# Altium footprint library con-hirose.PCBLIB: 71 footprints (part 3 of 6)
Each footprint in its own frame and in the unit in brackets; x right, y up, seen from the top. Pads: shape width x height; smd on the part's side, far side on the other; paste and mask are expansions set on the pad; w line width, h text height; cw(c..) or ccw(c..) is an arc to the next point about the centre after c.
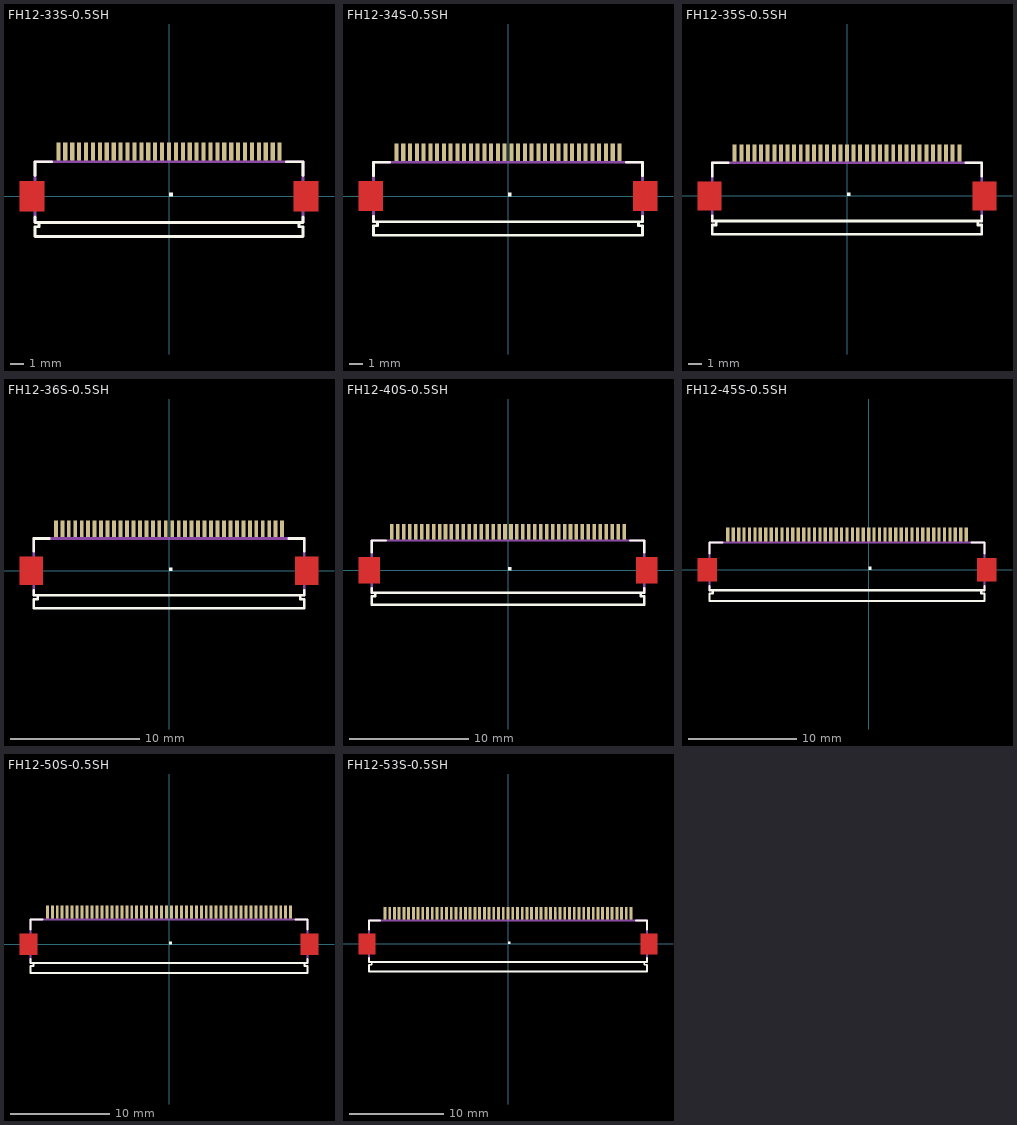
[diagram p2: the footprints below, top view; thin cyan lines are the x and y axes]

## FH12-33S-0.5SH [mm]
pads (33):
  rect 0.3x1.3 smd: 1(-8,3.25) 2(-7.5,3.25) 3(-7,3.25) 4(-6.5,3.25) 5(-6,3.25) 6(-5.5,3.25) 7(-5,3.25) 8(-4.5,3.25) 9(-4,3.25) 10(-3.5,3.25) 11(-3,3.25) 12(-2.5,3.25) 13(-2,3.25) 14(-1.5,3.25) 15(-1,3.25) 16(-0.5,3.25) 17(0,3.25) 18(0.5,3.25) 19(1,3.25) 20(1.5,3.25) 21(2,3.25) 22(2.5,3.25) 23(3,3.25) 24(3.5,3.25) 25(4,3.25) 26(4.5,3.25) 27(5,3.25) 28(5.5,3.25) 29(6,3.25) 30(6.5,3.25) 31(7,3.25) 32(7.5,3.25) 33(8,3.25)
Top Layer:
  region: 10.8,1.1 9,1.1 9,-1.1 10.8,-1.1
  region: -9,1.1 -10.8,1.1 -10.8,-1.1 -9,-1.1
Top Overlay:
  region: 0,0 0.254,0 0.254,0.254 0,0.254
  lines w0.203: -9.7,-1.5 -9.7,-1.9 -9.4,-1.9 ; -9.7,1.5 -9.7,2.5 -8.5,2.5 ; 8.5,2.5 9.7,2.5 9.7,1.5 ; 9.7,-1.5 9.7,-1.9 9.4,-1.9 ; -9.4,-1.9 -9.4,-2.2 -9.7,-2.2 -9.7,-2.9 9.7,-2.9 9.7,-2.2 9.4,-2.2 9.4,-1.9 ; -9.4,-1.9 9.4,-1.9
Top Paste:
  rectangle: -8.125,2.625 -7.875,3.875
  rectangle: -7.625,2.625 -7.375,3.875
  rectangle: -7.125,2.625 -6.875,3.875
  rectangle: -6.625,2.625 -6.375,3.875
  rectangle: -6.125,2.625 -5.875,3.875
  rectangle: -5.625,2.625 -5.375,3.875
  rectangle: -5.125,2.625 -4.875,3.875
  rectangle: -4.625,2.625 -4.375,3.875
  rectangle: -4.125,2.625 -3.875,3.875
  rectangle: -3.625,2.625 -3.375,3.875
  rectangle: -3.125,2.625 -2.875,3.875
  rectangle: -2.625,2.625 -2.375,3.875
  rectangle: -2.125,2.625 -1.875,3.875
  rectangle: -1.625,2.625 -1.375,3.875
  rectangle: -1.125,2.625 -0.875,3.875
  rectangle: -0.625,2.625 -0.375,3.875
  rectangle: -0.125,2.625 0.125,3.875
  rectangle: 0.375,2.625 0.625,3.875
  rectangle: 0.875,2.625 1.125,3.875
  rectangle: 1.375,2.625 1.625,3.875
  rectangle: 1.875,2.625 2.125,3.875
  rectangle: 2.375,2.625 2.625,3.875
  rectangle: 2.875,2.625 3.125,3.875
  rectangle: 3.375,2.625 3.625,3.875
  rectangle: 3.875,2.625 4.125,3.875
  rectangle: 4.375,2.625 4.625,3.875
  rectangle: 4.875,2.625 5.125,3.875
  rectangle: 5.375,2.625 5.625,3.875
  rectangle: 5.875,2.625 6.125,3.875
  rectangle: 6.375,2.625 6.625,3.875
  rectangle: 6.875,2.625 7.125,3.875
  rectangle: 7.375,2.625 7.625,3.875
  rectangle: 7.875,2.625 8.125,3.875
  region: 10.725,1.025 9.075,1.025 9.075,-1.025 10.725,-1.025
  region: -9.075,1.025 -10.725,1.025 -10.725,-1.025 -9.075,-1.025
Top Solder:
  rectangle: -8.2,2.55 -7.8,3.95
  rectangle: -7.7,2.55 -7.3,3.95
  rectangle: -7.2,2.55 -6.8,3.95
  rectangle: -6.7,2.55 -6.3,3.95
  rectangle: -6.2,2.55 -5.8,3.95
  rectangle: -5.7,2.55 -5.3,3.95
  rectangle: -5.2,2.55 -4.8,3.95
  rectangle: -4.7,2.55 -4.3,3.95
  rectangle: -4.2,2.55 -3.8,3.95
  rectangle: -3.7,2.55 -3.3,3.95
  rectangle: -3.2,2.55 -2.8,3.95
  rectangle: -2.7,2.55 -2.3,3.95
  rectangle: -2.2,2.55 -1.8,3.95
  rectangle: -1.7,2.55 -1.3,3.95
  rectangle: -1.2,2.55 -0.8,3.95
  rectangle: -0.7,2.55 -0.3,3.95
  rectangle: -0.2,2.55 0.2,3.95
  rectangle: 0.3,2.55 0.7,3.95
  rectangle: 0.8,2.55 1.2,3.95
  rectangle: 1.3,2.55 1.7,3.95
  rectangle: 1.8,2.55 2.2,3.95
  rectangle: 2.3,2.55 2.7,3.95
  rectangle: 2.8,2.55 3.2,3.95
  rectangle: 3.3,2.55 3.7,3.95
  rectangle: 3.8,2.55 4.2,3.95
  rectangle: 4.3,2.55 4.7,3.95
  rectangle: 4.8,2.55 5.2,3.95
  rectangle: 5.3,2.55 5.7,3.95
  rectangle: 5.8,2.55 6.2,3.95
  rectangle: 6.3,2.55 6.7,3.95
  rectangle: 6.8,2.55 7.2,3.95
  rectangle: 7.3,2.55 7.7,3.95
  rectangle: 7.8,2.55 8.2,3.95
  region: 10.85,1.175 8.95,1.175 8.95,-1.175 10.85,-1.175
  region: -8.95,1.175 -10.85,1.175 -10.85,-1.175 -8.95,-1.175
Mechanical 16:
  rectangle: -8.1,2.55 -7.9,3.4
  rectangle: -7.6,2.55 -7.4,3.4
  rectangle: -7.1,2.55 -6.9,3.4
  rectangle: -6.6,2.55 -6.4,3.4
  rectangle: -6.1,2.55 -5.9,3.4
  rectangle: -5.6,2.55 -5.4,3.4
  rectangle: -5.1,2.55 -4.9,3.4
  rectangle: -4.6,2.55 -4.4,3.4
  rectangle: -4.1,2.55 -3.9,3.4
  rectangle: -3.6,2.55 -3.4,3.4
  rectangle: -3.1,2.55 -2.9,3.4
  rectangle: -2.6,2.55 -2.4,3.4
  rectangle: -2.1,2.55 -1.9,3.4
  rectangle: -1.6,2.55 -1.4,3.4
  rectangle: -1.1,2.55 -0.9,3.4
  rectangle: -0.6,2.55 -0.4,3.4
  rectangle: -0.1,2.55 0.1,3.4
  rectangle: 0.4,2.55 0.6,3.4
  rectangle: 0.9,2.55 1.1,3.4
  rectangle: 1.4,2.55 1.6,3.4
  rectangle: 1.9,2.55 2.1,3.4
  rectangle: 2.4,2.55 2.6,3.4
  rectangle: 2.9,2.55 3.1,3.4
  rectangle: 3.4,2.55 3.6,3.4
  rectangle: 3.9,2.55 4.1,3.4
  rectangle: 4.4,2.55 4.6,3.4
  rectangle: 4.9,2.55 5.1,3.4
  rectangle: 5.4,2.55 5.6,3.4
  rectangle: 5.9,2.55 6.1,3.4
  rectangle: 6.4,2.55 6.6,3.4
  rectangle: 6.9,2.55 7.1,3.4
  rectangle: 7.4,2.55 7.6,3.4
  rectangle: 7.9,2.55 8.1,3.4
  lines w0.203: -9.7,-1.9 -9.7,-0.5 -10.2,-0.5 -10.2,0.5 -9.7,0.5 -9.7,2.5 9.7,2.5 9.7,0.5 10.2,0.5 10.2,-0.5 9.7,-0.5 9.7,-1.9

## FH12-34S-0.5SH [mm]
pads (34):
  rect 0.3x1.3 smd: 1(-8.25,3.25) 2(-7.75,3.25) 3(-7.25,3.25) 4(-6.75,3.25) 5(-6.25,3.25) 6(-5.75,3.25) 7(-5.25,3.25) 8(-4.75,3.25) 9(-4.25,3.25) 10(-3.75,3.25) 11(-3.25,3.25) 12(-2.75,3.25) 13(-2.25,3.25) 14(-1.75,3.25) 15(-1.25,3.25) 16(-0.75,3.25) 17(-0.25,3.25) 18(0.25,3.25) 19(0.75,3.25) 20(1.25,3.25) 21(1.75,3.25) 22(2.25,3.25) 23(2.75,3.25) 24(3.25,3.25) 25(3.75,3.25) 26(4.25,3.25) 27(4.75,3.25) 28(5.25,3.25) 29(5.75,3.25) 30(6.25,3.25) 31(6.75,3.25) 32(7.25,3.25) 33(7.75,3.25) 34(8.25,3.25)
Top Layer:
  region: 11.05,1.1 9.25,1.1 9.25,-1.1 11.05,-1.1
  region: -9.25,1.1 -11.05,1.1 -11.05,-1.1 -9.25,-1.1
Top Overlay:
  region: 0,0 0.254,0 0.254,0.254 0,0.254
  lines w0.203: -9.95,-1.5 -9.95,-1.9 -9.65,-1.9 ; -9.95,1.5 -9.95,2.5 -8.75,2.5 ; 8.75,2.5 9.95,2.5 9.95,1.5 ; 9.95,-1.5 9.95,-1.9 9.65,-1.9 ; -9.65,-1.9 -9.65,-2.2 -9.95,-2.2 -9.95,-2.9 9.95,-2.9 9.95,-2.2 9.65,-2.2 9.65,-1.9 ; -9.65,-1.9 9.65,-1.9
Top Paste:
  rectangle: -8.375,2.625 -8.125,3.875
  rectangle: -7.875,2.625 -7.625,3.875
  rectangle: -7.375,2.625 -7.125,3.875
  rectangle: -6.875,2.625 -6.625,3.875
  rectangle: -6.375,2.625 -6.125,3.875
  rectangle: -5.875,2.625 -5.625,3.875
  rectangle: -5.375,2.625 -5.125,3.875
  rectangle: -4.875,2.625 -4.625,3.875
  rectangle: -4.375,2.625 -4.125,3.875
  rectangle: -3.875,2.625 -3.625,3.875
  rectangle: -3.375,2.625 -3.125,3.875
  rectangle: -2.875,2.625 -2.625,3.875
  rectangle: -2.375,2.625 -2.125,3.875
  rectangle: -1.875,2.625 -1.625,3.875
  rectangle: -1.375,2.625 -1.125,3.875
  rectangle: -0.875,2.625 -0.625,3.875
  rectangle: -0.375,2.625 -0.125,3.875
  rectangle: 0.125,2.625 0.375,3.875
  rectangle: 0.625,2.625 0.875,3.875
  rectangle: 1.125,2.625 1.375,3.875
  rectangle: 1.625,2.625 1.875,3.875
  rectangle: 2.125,2.625 2.375,3.875
  rectangle: 2.625,2.625 2.875,3.875
  rectangle: 3.125,2.625 3.375,3.875
  rectangle: 3.625,2.625 3.875,3.875
  rectangle: 4.125,2.625 4.375,3.875
  rectangle: 4.625,2.625 4.875,3.875
  rectangle: 5.125,2.625 5.375,3.875
  rectangle: 5.625,2.625 5.875,3.875
  rectangle: 6.125,2.625 6.375,3.875
  rectangle: 6.625,2.625 6.875,3.875
  rectangle: 7.125,2.625 7.375,3.875
  rectangle: 7.625,2.625 7.875,3.875
  rectangle: 8.125,2.625 8.375,3.875
  region: 10.975,1.025 9.325,1.025 9.325,-1.025 10.975,-1.025
  region: -9.325,1.025 -10.975,1.025 -10.975,-1.025 -9.325,-1.025
Top Solder:
  rectangle: -8.45,2.55 -8.05,3.95
  rectangle: -7.95,2.55 -7.55,3.95
  rectangle: -7.45,2.55 -7.05,3.95
  rectangle: -6.95,2.55 -6.55,3.95
  rectangle: -6.45,2.55 -6.05,3.95
  rectangle: -5.95,2.55 -5.55,3.95
  rectangle: -5.45,2.55 -5.05,3.95
  rectangle: -4.95,2.55 -4.55,3.95
  rectangle: -4.45,2.55 -4.05,3.95
  rectangle: -3.95,2.55 -3.55,3.95
  rectangle: -3.45,2.55 -3.05,3.95
  rectangle: -2.95,2.55 -2.55,3.95
  rectangle: -2.45,2.55 -2.05,3.95
  rectangle: -1.95,2.55 -1.55,3.95
  rectangle: -1.45,2.55 -1.05,3.95
  rectangle: -0.95,2.55 -0.55,3.95
  rectangle: -0.45,2.55 -0.05,3.95
  rectangle: 0.05,2.55 0.45,3.95
  rectangle: 0.55,2.55 0.95,3.95
  rectangle: 1.05,2.55 1.45,3.95
  rectangle: 1.55,2.55 1.95,3.95
  rectangle: 2.05,2.55 2.45,3.95
  rectangle: 2.55,2.55 2.95,3.95
  rectangle: 3.05,2.55 3.45,3.95
  rectangle: 3.55,2.55 3.95,3.95
  rectangle: 4.05,2.55 4.45,3.95
  rectangle: 4.55,2.55 4.95,3.95
  rectangle: 5.05,2.55 5.45,3.95
  rectangle: 5.55,2.55 5.95,3.95
  rectangle: 6.05,2.55 6.45,3.95
  rectangle: 6.55,2.55 6.95,3.95
  rectangle: 7.05,2.55 7.45,3.95
  rectangle: 7.55,2.55 7.95,3.95
  rectangle: 8.05,2.55 8.45,3.95
  region: 11.1,1.175 9.2,1.175 9.2,-1.175 11.1,-1.175
  region: -9.2,1.175 -11.1,1.175 -11.1,-1.175 -9.2,-1.175
Mechanical 16:
  rectangle: -8.35,2.55 -8.15,3.4
  rectangle: -7.85,2.55 -7.65,3.4
  rectangle: -7.35,2.55 -7.15,3.4
  rectangle: -6.85,2.55 -6.65,3.4
  rectangle: -6.35,2.55 -6.15,3.4
  rectangle: -5.85,2.55 -5.65,3.4
  rectangle: -5.35,2.55 -5.15,3.4
  rectangle: -4.85,2.55 -4.65,3.4
  rectangle: -4.35,2.55 -4.15,3.4
  rectangle: -3.85,2.55 -3.65,3.4
  rectangle: -3.35,2.55 -3.15,3.4
  rectangle: -2.85,2.55 -2.65,3.4
  rectangle: -2.35,2.55 -2.15,3.4
  rectangle: -1.85,2.55 -1.65,3.4
  rectangle: -1.35,2.55 -1.15,3.4
  rectangle: -0.85,2.55 -0.65,3.4
  rectangle: -0.35,2.55 -0.15,3.4
  rectangle: 0.15,2.55 0.35,3.4
  rectangle: 0.65,2.55 0.85,3.4
  rectangle: 1.15,2.55 1.35,3.4
  rectangle: 1.65,2.55 1.85,3.4
  rectangle: 2.15,2.55 2.35,3.4
  rectangle: 2.65,2.55 2.85,3.4
  rectangle: 3.15,2.55 3.35,3.4
  rectangle: 3.65,2.55 3.85,3.4
  rectangle: 4.15,2.55 4.35,3.4
  rectangle: 4.65,2.55 4.85,3.4
  rectangle: 5.15,2.55 5.35,3.4
  rectangle: 5.65,2.55 5.85,3.4
  rectangle: 6.15,2.55 6.35,3.4
  rectangle: 6.65,2.55 6.85,3.4
  rectangle: 7.15,2.55 7.35,3.4
  rectangle: 7.65,2.55 7.85,3.4
  rectangle: 8.15,2.55 8.35,3.4
  lines w0.203: -9.95,-1.9 -9.95,-0.5 -10.45,-0.5 -10.45,0.5 -9.95,0.5 -9.95,2.5 9.95,2.5 9.95,0.5 10.45,0.5 10.45,-0.5 9.95,-0.5 9.95,-1.9

## FH12-35S-0.5SH [mm]
pads (35):
  rect 0.3x1.3 smd: 1(-8.5,3.25) 2(-8,3.25) 3(-7.5,3.25) 4(-7,3.25) 5(-6.5,3.25) 6(-6,3.25) 7(-5.5,3.25) 8(-5,3.25) 9(-4.5,3.25) 10(-4,3.25) 11(-3.5,3.25) 12(-3,3.25) 13(-2.5,3.25) 14(-2,3.25) 15(-1.5,3.25) 16(-1,3.25) 17(-0.5,3.25) 18(0,3.25) 19(0.5,3.25) 20(1,3.25) 21(1.5,3.25) 22(2,3.25) 23(2.5,3.25) 24(3,3.25) 25(3.5,3.25) 26(4,3.25) 27(4.5,3.25) 28(5,3.25) 29(5.5,3.25) 30(6,3.25) 31(6.5,3.25) 32(7,3.25) 33(7.5,3.25) 34(8,3.25) 35(8.5,3.25)
Top Layer:
  region: 11.3,1.1 9.5,1.1 9.5,-1.1 11.3,-1.1
  region: -9.5,1.1 -11.3,1.1 -11.3,-1.1 -9.5,-1.1
Top Overlay:
  region: 0,0 0.254,0 0.254,0.254 0,0.254
  lines w0.203: -10.2,-1.5 -10.2,-1.9 -9.9,-1.9 ; -10.2,1.5 -10.2,2.5 -9,2.5 ; 9,2.5 10.2,2.5 10.2,1.5 ; 10.2,-1.5 10.2,-1.9 9.9,-1.9 ; -9.9,-1.9 -9.9,-2.2 -10.2,-2.2 -10.2,-2.9 10.2,-2.9 10.2,-2.2 9.9,-2.2 9.9,-1.9 ; -9.9,-1.9 9.9,-1.9
Top Paste:
  rectangle: -8.625,2.625 -8.375,3.875
  rectangle: -8.125,2.625 -7.875,3.875
  rectangle: -7.625,2.625 -7.375,3.875
  rectangle: -7.125,2.625 -6.875,3.875
  rectangle: -6.625,2.625 -6.375,3.875
  rectangle: -6.125,2.625 -5.875,3.875
  rectangle: -5.625,2.625 -5.375,3.875
  rectangle: -5.125,2.625 -4.875,3.875
  rectangle: -4.625,2.625 -4.375,3.875
  rectangle: -4.125,2.625 -3.875,3.875
  rectangle: -3.625,2.625 -3.375,3.875
  rectangle: -3.125,2.625 -2.875,3.875
  rectangle: -2.625,2.625 -2.375,3.875
  rectangle: -2.125,2.625 -1.875,3.875
  rectangle: -1.625,2.625 -1.375,3.875
  rectangle: -1.125,2.625 -0.875,3.875
  rectangle: -0.625,2.625 -0.375,3.875
  rectangle: -0.125,2.625 0.125,3.875
  rectangle: 0.375,2.625 0.625,3.875
  rectangle: 0.875,2.625 1.125,3.875
  rectangle: 1.375,2.625 1.625,3.875
  rectangle: 1.875,2.625 2.125,3.875
  rectangle: 2.375,2.625 2.625,3.875
  rectangle: 2.875,2.625 3.125,3.875
  rectangle: 3.375,2.625 3.625,3.875
  rectangle: 3.875,2.625 4.125,3.875
  rectangle: 4.375,2.625 4.625,3.875
  rectangle: 4.875,2.625 5.125,3.875
  rectangle: 5.375,2.625 5.625,3.875
  rectangle: 5.875,2.625 6.125,3.875
  rectangle: 6.375,2.625 6.625,3.875
  rectangle: 6.875,2.625 7.125,3.875
  rectangle: 7.375,2.625 7.625,3.875
  rectangle: 7.875,2.625 8.125,3.875
  rectangle: 8.375,2.625 8.625,3.875
  region: 11.225,1.025 9.575,1.025 9.575,-1.025 11.225,-1.025
  region: -9.575,1.025 -11.225,1.025 -11.225,-1.025 -9.575,-1.025
Top Solder:
  rectangle: -8.7,2.55 -8.3,3.95
  rectangle: -8.2,2.55 -7.8,3.95
  rectangle: -7.7,2.55 -7.3,3.95
  rectangle: -7.2,2.55 -6.8,3.95
  rectangle: -6.7,2.55 -6.3,3.95
  rectangle: -6.2,2.55 -5.8,3.95
  rectangle: -5.7,2.55 -5.3,3.95
  rectangle: -5.2,2.55 -4.8,3.95
  rectangle: -4.7,2.55 -4.3,3.95
  rectangle: -4.2,2.55 -3.8,3.95
  rectangle: -3.7,2.55 -3.3,3.95
  rectangle: -3.2,2.55 -2.8,3.95
  rectangle: -2.7,2.55 -2.3,3.95
  rectangle: -2.2,2.55 -1.8,3.95
  rectangle: -1.7,2.55 -1.3,3.95
  rectangle: -1.2,2.55 -0.8,3.95
  rectangle: -0.7,2.55 -0.3,3.95
  rectangle: -0.2,2.55 0.2,3.95
  rectangle: 0.3,2.55 0.7,3.95
  rectangle: 0.8,2.55 1.2,3.95
  rectangle: 1.3,2.55 1.7,3.95
  rectangle: 1.8,2.55 2.2,3.95
  rectangle: 2.3,2.55 2.7,3.95
  rectangle: 2.8,2.55 3.2,3.95
  rectangle: 3.3,2.55 3.7,3.95
  rectangle: 3.8,2.55 4.2,3.95
  rectangle: 4.3,2.55 4.7,3.95
  rectangle: 4.8,2.55 5.2,3.95
  rectangle: 5.3,2.55 5.7,3.95
  rectangle: 5.8,2.55 6.2,3.95
  rectangle: 6.3,2.55 6.7,3.95
  rectangle: 6.8,2.55 7.2,3.95
  rectangle: 7.3,2.55 7.7,3.95
  rectangle: 7.8,2.55 8.2,3.95
  rectangle: 8.3,2.55 8.7,3.95
  region: 11.35,1.175 9.45,1.175 9.45,-1.175 11.35,-1.175
  region: -9.45,1.175 -11.35,1.175 -11.35,-1.175 -9.45,-1.175
Mechanical 16:
  rectangle: -8.6,2.55 -8.4,3.4
  rectangle: -8.1,2.55 -7.9,3.4
  rectangle: -7.6,2.55 -7.4,3.4
  rectangle: -7.1,2.55 -6.9,3.4
  rectangle: -6.6,2.55 -6.4,3.4
  rectangle: -6.1,2.55 -5.9,3.4
  rectangle: -5.6,2.55 -5.4,3.4
  rectangle: -5.1,2.55 -4.9,3.4
  rectangle: -4.6,2.55 -4.4,3.4
  rectangle: -4.1,2.55 -3.9,3.4
  rectangle: -3.6,2.55 -3.4,3.4
  rectangle: -3.1,2.55 -2.9,3.4
  rectangle: -2.6,2.55 -2.4,3.4
  rectangle: -2.1,2.55 -1.9,3.4
  rectangle: -1.6,2.55 -1.4,3.4
  rectangle: -1.1,2.55 -0.9,3.4
  rectangle: -0.6,2.55 -0.4,3.4
  rectangle: -0.1,2.55 0.1,3.4
  rectangle: 0.4,2.55 0.6,3.4
  rectangle: 0.9,2.55 1.1,3.4
  rectangle: 1.4,2.55 1.6,3.4
  rectangle: 1.9,2.55 2.1,3.4
  rectangle: 2.4,2.55 2.6,3.4
  rectangle: 2.9,2.55 3.1,3.4
  rectangle: 3.4,2.55 3.6,3.4
  rectangle: 3.9,2.55 4.1,3.4
  rectangle: 4.4,2.55 4.6,3.4
  rectangle: 4.9,2.55 5.1,3.4
  rectangle: 5.4,2.55 5.6,3.4
  rectangle: 5.9,2.55 6.1,3.4
  rectangle: 6.4,2.55 6.6,3.4
  rectangle: 6.9,2.55 7.1,3.4
  rectangle: 7.4,2.55 7.6,3.4
  rectangle: 7.9,2.55 8.1,3.4
  rectangle: 8.4,2.55 8.6,3.4
  lines w0.203: -10.2,-1.9 -10.2,-0.5 -10.7,-0.5 -10.7,0.5 -10.2,0.5 -10.2,2.5 10.2,2.5 10.2,0.5 10.7,0.5 10.7,-0.5 10.2,-0.5 10.2,-1.9

## FH12-36S-0.5SH [mm]
pads (36):
  rect 0.3x1.3 smd: 1(-8.75,3.25) 2(-8.25,3.25) 3(-7.75,3.25) 4(-7.25,3.25) 5(-6.75,3.25) 6(-6.25,3.25) 7(-5.75,3.25) 8(-5.25,3.25) 9(-4.75,3.25) 10(-4.25,3.25) 11(-3.75,3.25) 12(-3.25,3.25) 13(-2.75,3.25) 14(-2.25,3.25) 15(-1.75,3.25) 16(-1.25,3.25) 17(-0.75,3.25) 18(-0.25,3.25) 19(0.25,3.25) 20(0.75,3.25) 21(1.25,3.25) 22(1.75,3.25) 23(2.25,3.25) 24(2.75,3.25) 25(3.25,3.25) 26(3.75,3.25) 27(4.25,3.25) 28(4.75,3.25) 29(5.25,3.25) 30(5.75,3.25) 31(6.25,3.25) 32(6.75,3.25) 33(7.25,3.25) 34(7.75,3.25) 35(8.25,3.25) 36(8.75,3.25)
Top Layer:
  region: 11.55,1.1 9.75,1.1 9.75,-1.1 11.55,-1.1
  region: -9.75,1.1 -11.55,1.1 -11.55,-1.1 -9.75,-1.1
Top Overlay:
  region: 0,0 0.254,0 0.254,0.254 0,0.254
  lines w0.203: -10.45,-1.5 -10.45,-1.9 -10.15,-1.9 ; -10.45,1.5 -10.45,2.5 -9.25,2.5 ; 9.25,2.5 10.45,2.5 10.45,1.5 ; 10.45,-1.5 10.45,-1.9 10.15,-1.9 ; -10.15,-1.9 -10.15,-2.2 -10.45,-2.2 -10.45,-2.9 10.45,-2.9 10.45,-2.2 10.15,-2.2 10.15,-1.9 ; -10.15,-1.9 10.15,-1.9
Top Paste:
  rectangle: -8.875,2.625 -8.625,3.875
  rectangle: -8.375,2.625 -8.125,3.875
  rectangle: -7.875,2.625 -7.625,3.875
  rectangle: -7.375,2.625 -7.125,3.875
  rectangle: -6.875,2.625 -6.625,3.875
  rectangle: -6.375,2.625 -6.125,3.875
  rectangle: -5.875,2.625 -5.625,3.875
  rectangle: -5.375,2.625 -5.125,3.875
  rectangle: -4.875,2.625 -4.625,3.875
  rectangle: -4.375,2.625 -4.125,3.875
  rectangle: -3.875,2.625 -3.625,3.875
  rectangle: -3.375,2.625 -3.125,3.875
  rectangle: -2.875,2.625 -2.625,3.875
  rectangle: -2.375,2.625 -2.125,3.875
  rectangle: -1.875,2.625 -1.625,3.875
  rectangle: -1.375,2.625 -1.125,3.875
  rectangle: -0.875,2.625 -0.625,3.875
  rectangle: -0.375,2.625 -0.125,3.875
  rectangle: 0.125,2.625 0.375,3.875
  rectangle: 0.625,2.625 0.875,3.875
  rectangle: 1.125,2.625 1.375,3.875
  rectangle: 1.625,2.625 1.875,3.875
  rectangle: 2.125,2.625 2.375,3.875
  rectangle: 2.625,2.625 2.875,3.875
  rectangle: 3.125,2.625 3.375,3.875
  rectangle: 3.625,2.625 3.875,3.875
  rectangle: 4.125,2.625 4.375,3.875
  rectangle: 4.625,2.625 4.875,3.875
  rectangle: 5.125,2.625 5.375,3.875
  rectangle: 5.625,2.625 5.875,3.875
  rectangle: 6.125,2.625 6.375,3.875
  rectangle: 6.625,2.625 6.875,3.875
  rectangle: 7.125,2.625 7.375,3.875
  rectangle: 7.625,2.625 7.875,3.875
  rectangle: 8.125,2.625 8.375,3.875
  rectangle: 8.625,2.625 8.875,3.875
  region: 11.475,1.025 9.825,1.025 9.825,-1.025 11.475,-1.025
  region: -9.825,1.025 -11.475,1.025 -11.475,-1.025 -9.825,-1.025
Top Solder:
  rectangle: -8.95,2.55 -8.55,3.95
  rectangle: -8.45,2.55 -8.05,3.95
  rectangle: -7.95,2.55 -7.55,3.95
  rectangle: -7.45,2.55 -7.05,3.95
  rectangle: -6.95,2.55 -6.55,3.95
  rectangle: -6.45,2.55 -6.05,3.95
  rectangle: -5.95,2.55 -5.55,3.95
  rectangle: -5.45,2.55 -5.05,3.95
  rectangle: -4.95,2.55 -4.55,3.95
  rectangle: -4.45,2.55 -4.05,3.95
  rectangle: -3.95,2.55 -3.55,3.95
  rectangle: -3.45,2.55 -3.05,3.95
  rectangle: -2.95,2.55 -2.55,3.95
  rectangle: -2.45,2.55 -2.05,3.95
  rectangle: -1.95,2.55 -1.55,3.95
  rectangle: -1.45,2.55 -1.05,3.95
  rectangle: -0.95,2.55 -0.55,3.95
  rectangle: -0.45,2.55 -0.05,3.95
  rectangle: 0.05,2.55 0.45,3.95
  rectangle: 0.55,2.55 0.95,3.95
  rectangle: 1.05,2.55 1.45,3.95
  rectangle: 1.55,2.55 1.95,3.95
  rectangle: 2.05,2.55 2.45,3.95
  rectangle: 2.55,2.55 2.95,3.95
  rectangle: 3.05,2.55 3.45,3.95
  rectangle: 3.55,2.55 3.95,3.95
  rectangle: 4.05,2.55 4.45,3.95
  rectangle: 4.55,2.55 4.95,3.95
  rectangle: 5.05,2.55 5.45,3.95
  rectangle: 5.55,2.55 5.95,3.95
  rectangle: 6.05,2.55 6.45,3.95
  rectangle: 6.55,2.55 6.95,3.95
  rectangle: 7.05,2.55 7.45,3.95
  rectangle: 7.55,2.55 7.95,3.95
  rectangle: 8.05,2.55 8.45,3.95
  rectangle: 8.55,2.55 8.95,3.95
  region: 11.6,1.175 9.7,1.175 9.7,-1.175 11.6,-1.175
  region: -9.7,1.175 -11.6,1.175 -11.6,-1.175 -9.7,-1.175
Mechanical 16:
  rectangle: -8.85,2.55 -8.65,3.4
  rectangle: -8.35,2.55 -8.15,3.4
  rectangle: -7.85,2.55 -7.65,3.4
  rectangle: -7.35,2.55 -7.15,3.4
  rectangle: -6.85,2.55 -6.65,3.4
  rectangle: -6.35,2.55 -6.15,3.4
  rectangle: -5.85,2.55 -5.65,3.4
  rectangle: -5.35,2.55 -5.15,3.4
  rectangle: -4.85,2.55 -4.65,3.4
  rectangle: -4.35,2.55 -4.15,3.4
  rectangle: -3.85,2.55 -3.65,3.4
  rectangle: -3.35,2.55 -3.15,3.4
  rectangle: -2.85,2.55 -2.65,3.4
  rectangle: -2.35,2.55 -2.15,3.4
  rectangle: -1.85,2.55 -1.65,3.4
  rectangle: -1.35,2.55 -1.15,3.4
  rectangle: -0.85,2.55 -0.65,3.4
  rectangle: -0.35,2.55 -0.15,3.4
  rectangle: 0.15,2.55 0.35,3.4
  rectangle: 0.65,2.55 0.85,3.4
  rectangle: 1.15,2.55 1.35,3.4
  rectangle: 1.65,2.55 1.85,3.4
  rectangle: 2.15,2.55 2.35,3.4
  rectangle: 2.65,2.55 2.85,3.4
  rectangle: 3.15,2.55 3.35,3.4
  rectangle: 3.65,2.55 3.85,3.4
  rectangle: 4.15,2.55 4.35,3.4
  rectangle: 4.65,2.55 4.85,3.4
  rectangle: 5.15,2.55 5.35,3.4
  rectangle: 5.65,2.55 5.85,3.4
  rectangle: 6.15,2.55 6.35,3.4
  rectangle: 6.65,2.55 6.85,3.4
  rectangle: 7.15,2.55 7.35,3.4
  rectangle: 7.65,2.55 7.85,3.4
  rectangle: 8.15,2.55 8.35,3.4
  rectangle: 8.65,2.55 8.85,3.4
  lines w0.203: -10.45,-1.9 -10.45,-0.5 -10.95,-0.5 -10.95,0.5 -10.45,0.5 -10.45,2.5 10.45,2.5 10.45,0.5 10.95,0.5 10.95,-0.5 10.45,-0.5 10.45,-1.9

## FH12-40S-0.5SH [mm]
pads (40):
  rect 0.3x1.3 smd: 1(-9.75,3.25) 2(-9.25,3.25) 3(-8.75,3.25) 4(-8.25,3.25) 5(-7.75,3.25) 6(-7.25,3.25) 7(-6.75,3.25) 8(-6.25,3.25) 9(-5.75,3.25) 10(-5.25,3.25) 11(-4.75,3.25) 12(-4.25,3.25) 13(-3.75,3.25) 14(-3.25,3.25) 15(-2.75,3.25) 16(-2.25,3.25) 17(-1.75,3.25) 18(-1.25,3.25) 19(-0.75,3.25) 20(-0.25,3.25) 21(0.25,3.25) 22(0.75,3.25) 23(1.25,3.25) 24(1.75,3.25) 25(2.25,3.25) 26(2.75,3.25) 27(3.25,3.25) 28(3.75,3.25) 29(4.25,3.25) 30(4.75,3.25) 31(5.25,3.25) 32(5.75,3.25) 33(6.25,3.25) 34(6.75,3.25) 35(7.25,3.25) 36(7.75,3.25) 37(8.25,3.25) 38(8.75,3.25) 39(9.25,3.25) 40(9.75,3.25)
Top Layer:
  region: 12.55,1.1 10.75,1.1 10.75,-1.1 12.55,-1.1
  region: -10.75,1.1 -12.55,1.1 -12.55,-1.1 -10.75,-1.1
Top Overlay:
  region: 0,0 0.254,0 0.254,0.254 0,0.254
  lines w0.203: -11.45,-1.5 -11.45,-1.9 -11.15,-1.9 ; -11.45,1.5 -11.45,2.5 -10.25,2.5 ; 10.25,2.5 11.45,2.5 11.45,1.5 ; 11.45,-1.5 11.45,-1.9 11.15,-1.9 ; -11.15,-1.9 -11.15,-2.2 -11.45,-2.2 -11.45,-2.9 11.45,-2.9 11.45,-2.2 11.15,-2.2 11.15,-1.9 ; -11.15,-1.9 11.15,-1.9
Top Paste:
  rectangle: -9.875,2.625 -9.625,3.875
  rectangle: -9.375,2.625 -9.125,3.875
  rectangle: -8.875,2.625 -8.625,3.875
  rectangle: -8.375,2.625 -8.125,3.875
  rectangle: -7.875,2.625 -7.625,3.875
  rectangle: -7.375,2.625 -7.125,3.875
  rectangle: -6.875,2.625 -6.625,3.875
  rectangle: -6.375,2.625 -6.125,3.875
  rectangle: -5.875,2.625 -5.625,3.875
  rectangle: -5.375,2.625 -5.125,3.875
  rectangle: -4.875,2.625 -4.625,3.875
  rectangle: -4.375,2.625 -4.125,3.875
  rectangle: -3.875,2.625 -3.625,3.875
  rectangle: -3.375,2.625 -3.125,3.875
  rectangle: -2.875,2.625 -2.625,3.875
  rectangle: -2.375,2.625 -2.125,3.875
  rectangle: -1.875,2.625 -1.625,3.875
  rectangle: -1.375,2.625 -1.125,3.875
  rectangle: -0.875,2.625 -0.625,3.875
  rectangle: -0.375,2.625 -0.125,3.875
  rectangle: 0.125,2.625 0.375,3.875
  rectangle: 0.625,2.625 0.875,3.875
  rectangle: 1.125,2.625 1.375,3.875
  rectangle: 1.625,2.625 1.875,3.875
  rectangle: 2.125,2.625 2.375,3.875
  rectangle: 2.625,2.625 2.875,3.875
  rectangle: 3.125,2.625 3.375,3.875
  rectangle: 3.625,2.625 3.875,3.875
  rectangle: 4.125,2.625 4.375,3.875
  rectangle: 4.625,2.625 4.875,3.875
  rectangle: 5.125,2.625 5.375,3.875
  rectangle: 5.625,2.625 5.875,3.875
  rectangle: 6.125,2.625 6.375,3.875
  rectangle: 6.625,2.625 6.875,3.875
  rectangle: 7.125,2.625 7.375,3.875
  rectangle: 7.625,2.625 7.875,3.875
  rectangle: 8.125,2.625 8.375,3.875
  rectangle: 8.625,2.625 8.875,3.875
  rectangle: 9.125,2.625 9.375,3.875
  rectangle: 9.625,2.625 9.875,3.875
  region: 12.475,1.025 10.825,1.025 10.825,-1.025 12.475,-1.025
  region: -10.825,1.025 -12.475,1.025 -12.475,-1.025 -10.825,-1.025
Top Solder:
  rectangle: -9.95,2.55 -9.55,3.95
  rectangle: -9.45,2.55 -9.05,3.95
  rectangle: -8.95,2.55 -8.55,3.95
  rectangle: -8.45,2.55 -8.05,3.95
  rectangle: -7.95,2.55 -7.55,3.95
  rectangle: -7.45,2.55 -7.05,3.95
  rectangle: -6.95,2.55 -6.55,3.95
  rectangle: -6.45,2.55 -6.05,3.95
  rectangle: -5.95,2.55 -5.55,3.95
  rectangle: -5.45,2.55 -5.05,3.95
  rectangle: -4.95,2.55 -4.55,3.95
  rectangle: -4.45,2.55 -4.05,3.95
  rectangle: -3.95,2.55 -3.55,3.95
  rectangle: -3.45,2.55 -3.05,3.95
  rectangle: -2.95,2.55 -2.55,3.95
  rectangle: -2.45,2.55 -2.05,3.95
  rectangle: -1.95,2.55 -1.55,3.95
  rectangle: -1.45,2.55 -1.05,3.95
  rectangle: -0.95,2.55 -0.55,3.95
  rectangle: -0.45,2.55 -0.05,3.95
  rectangle: 0.05,2.55 0.45,3.95
  rectangle: 0.55,2.55 0.95,3.95
  rectangle: 1.05,2.55 1.45,3.95
  rectangle: 1.55,2.55 1.95,3.95
  rectangle: 2.05,2.55 2.45,3.95
  rectangle: 2.55,2.55 2.95,3.95
  rectangle: 3.05,2.55 3.45,3.95
  rectangle: 3.55,2.55 3.95,3.95
  rectangle: 4.05,2.55 4.45,3.95
  rectangle: 4.55,2.55 4.95,3.95
  rectangle: 5.05,2.55 5.45,3.95
  rectangle: 5.55,2.55 5.95,3.95
  rectangle: 6.05,2.55 6.45,3.95
  rectangle: 6.55,2.55 6.95,3.95
  rectangle: 7.05,2.55 7.45,3.95
  rectangle: 7.55,2.55 7.95,3.95
  rectangle: 8.05,2.55 8.45,3.95
  rectangle: 8.55,2.55 8.95,3.95
  rectangle: 9.05,2.55 9.45,3.95
  rectangle: 9.55,2.55 9.95,3.95
  region: 12.6,1.175 10.7,1.175 10.7,-1.175 12.6,-1.175
  region: -10.7,1.175 -12.6,1.175 -12.6,-1.175 -10.7,-1.175
Mechanical 16:
  rectangle: -9.85,2.55 -9.65,3.4
  rectangle: -9.35,2.55 -9.15,3.4
  rectangle: -8.85,2.55 -8.65,3.4
  rectangle: -8.35,2.55 -8.15,3.4
  rectangle: -7.85,2.55 -7.65,3.4
  rectangle: -7.35,2.55 -7.15,3.4
  rectangle: -6.85,2.55 -6.65,3.4
  rectangle: -6.35,2.55 -6.15,3.4
  rectangle: -5.85,2.55 -5.65,3.4
  rectangle: -5.35,2.55 -5.15,3.4
  rectangle: -4.85,2.55 -4.65,3.4
  rectangle: -4.35,2.55 -4.15,3.4
  rectangle: -3.85,2.55 -3.65,3.4
  rectangle: -3.35,2.55 -3.15,3.4
  rectangle: -2.85,2.55 -2.65,3.4
  rectangle: -2.35,2.55 -2.15,3.4
  rectangle: -1.85,2.55 -1.65,3.4
  rectangle: -1.35,2.55 -1.15,3.4
  rectangle: -0.85,2.55 -0.65,3.4
  rectangle: -0.35,2.55 -0.15,3.4
  rectangle: 0.15,2.55 0.35,3.4
  rectangle: 0.65,2.55 0.85,3.4
  rectangle: 1.15,2.55 1.35,3.4
  rectangle: 1.65,2.55 1.85,3.4
  rectangle: 2.15,2.55 2.35,3.4
  rectangle: 2.65,2.55 2.85,3.4
  rectangle: 3.15,2.55 3.35,3.4
  rectangle: 3.65,2.55 3.85,3.4
  rectangle: 4.15,2.55 4.35,3.4
  rectangle: 4.65,2.55 4.85,3.4
  rectangle: 5.15,2.55 5.35,3.4
  rectangle: 5.65,2.55 5.85,3.4
  rectangle: 6.15,2.55 6.35,3.4
  rectangle: 6.65,2.55 6.85,3.4
  rectangle: 7.15,2.55 7.35,3.4
  rectangle: 7.65,2.55 7.85,3.4
  rectangle: 8.15,2.55 8.35,3.4
  rectangle: 8.65,2.55 8.85,3.4
  rectangle: 9.15,2.55 9.35,3.4
  rectangle: 9.65,2.55 9.85,3.4
  lines w0.203: -11.45,-1.9 -11.45,-0.5 -11.95,-0.5 -11.95,0.5 -11.45,0.5 -11.45,2.5 11.45,2.5 11.45,0.5 11.95,0.5 11.95,-0.5 11.45,-0.5 11.45,-1.9

## FH12-45S-0.5SH [mm]
pads (45):
  rect 0.3x1.3 smd: 1(-13,3.25) 2(-12.5,3.25) 3(-12,3.25) 4(-11.5,3.25) 5(-11,3.25) 6(-10.5,3.25) 7(-10,3.25) 8(-9.5,3.25) 9(-9,3.25) 10(-8.5,3.25) 11(-8,3.25) 12(-7.5,3.25) 13(-7,3.25) 14(-6.5,3.25) 15(-6,3.25) 16(-5.5,3.25) 17(-5,3.25) 18(-4.5,3.25) 19(-4,3.25) 20(-3.5,3.25) 21(-3,3.25) 22(-2.5,3.25) 23(-2,3.25) 24(-1.5,3.25) 25(-1,3.25) 26(-0.5,3.25) 27(0,3.25) 28(0.5,3.25) 29(1,3.25) 30(1.5,3.25) 31(2,3.25) 32(2.5,3.25) 33(3,3.25) 34(3.5,3.25) 35(4,3.25) 36(4.5,3.25) 37(5,3.25) 38(5.5,3.25) 39(6,3.25) 40(6.5,3.25) 41(7,3.25) 42(7.5,3.25) 43(8,3.25) 44(8.5,3.25) 45(9,3.25)
Top Layer:
  region: 11.8,1.1 10,1.1 10,-1.1 11.8,-1.1
  region: -14,1.1 -15.8,1.1 -15.8,-1.1 -14,-1.1
Top Overlay:
  region: 0,0 0.254,0 0.254,0.254 0,0.254
  lines w0.203: -14.7,-1.5 -14.7,-1.9 -14.4,-1.9 ; -14.7,1.5 -14.7,2.5 -13.5,2.5 ; 9.5,2.5 10.7,2.5 10.7,1.5 ; 10.7,-1.5 10.7,-1.9 10.4,-1.9 ; -14.4,-1.9 -14.4,-2.2 -14.7,-2.2 -14.7,-2.9 10.7,-2.9 10.7,-2.2 10.4,-2.2 10.4,-1.9 ; -14.4,-1.9 10.4,-1.9
Top Paste:
  rectangle: -13.125,2.625 -12.875,3.875
  rectangle: -12.625,2.625 -12.375,3.875
  rectangle: -12.125,2.625 -11.875,3.875
  rectangle: -11.625,2.625 -11.375,3.875
  rectangle: -11.125,2.625 -10.875,3.875
  rectangle: -10.625,2.625 -10.375,3.875
  rectangle: -10.125,2.625 -9.875,3.875
  rectangle: -9.625,2.625 -9.375,3.875
  rectangle: -9.125,2.625 -8.875,3.875
  rectangle: -8.625,2.625 -8.375,3.875
  rectangle: -8.125,2.625 -7.875,3.875
  rectangle: -7.625,2.625 -7.375,3.875
  rectangle: -7.125,2.625 -6.875,3.875
  rectangle: -6.625,2.625 -6.375,3.875
  rectangle: -6.125,2.625 -5.875,3.875
  rectangle: -5.625,2.625 -5.375,3.875
  rectangle: -5.125,2.625 -4.875,3.875
  rectangle: -4.625,2.625 -4.375,3.875
  rectangle: -4.125,2.625 -3.875,3.875
  rectangle: -3.625,2.625 -3.375,3.875
  rectangle: -3.125,2.625 -2.875,3.875
  rectangle: -2.625,2.625 -2.375,3.875
  rectangle: -2.125,2.625 -1.875,3.875
  rectangle: -1.625,2.625 -1.375,3.875
  rectangle: -1.125,2.625 -0.875,3.875
  rectangle: -0.625,2.625 -0.375,3.875
  rectangle: -0.125,2.625 0.125,3.875
  rectangle: 0.375,2.625 0.625,3.875
  rectangle: 0.875,2.625 1.125,3.875
  rectangle: 1.375,2.625 1.625,3.875
  rectangle: 1.875,2.625 2.125,3.875
  rectangle: 2.375,2.625 2.625,3.875
  rectangle: 2.875,2.625 3.125,3.875
  rectangle: 3.375,2.625 3.625,3.875
  rectangle: 3.875,2.625 4.125,3.875
  rectangle: 4.375,2.625 4.625,3.875
  rectangle: 4.875,2.625 5.125,3.875
  rectangle: 5.375,2.625 5.625,3.875
  rectangle: 5.875,2.625 6.125,3.875
  rectangle: 6.375,2.625 6.625,3.875
  rectangle: 6.875,2.625 7.125,3.875
  rectangle: 7.375,2.625 7.625,3.875
  rectangle: 7.875,2.625 8.125,3.875
  rectangle: 8.375,2.625 8.625,3.875
  rectangle: 8.875,2.625 9.125,3.875
  region: 11.725,1.025 10.075,1.025 10.075,-1.025 11.725,-1.025
  region: -14.075,1.025 -15.725,1.025 -15.725,-1.025 -14.075,-1.025
Top Solder:
  rectangle: -13.2,2.55 -12.8,3.95
  rectangle: -12.7,2.55 -12.3,3.95
  rectangle: -12.2,2.55 -11.8,3.95
  rectangle: -11.7,2.55 -11.3,3.95
  rectangle: -11.2,2.55 -10.8,3.95
  rectangle: -10.7,2.55 -10.3,3.95
  rectangle: -10.2,2.55 -9.8,3.95
  rectangle: -9.7,2.55 -9.3,3.95
  rectangle: -9.2,2.55 -8.8,3.95
  rectangle: -8.7,2.55 -8.3,3.95
  rectangle: -8.2,2.55 -7.8,3.95
  rectangle: -7.7,2.55 -7.3,3.95
  rectangle: -7.2,2.55 -6.8,3.95
  rectangle: -6.7,2.55 -6.3,3.95
  rectangle: -6.2,2.55 -5.8,3.95
  rectangle: -5.7,2.55 -5.3,3.95
  rectangle: -5.2,2.55 -4.8,3.95
  rectangle: -4.7,2.55 -4.3,3.95
  rectangle: -4.2,2.55 -3.8,3.95
  rectangle: -3.7,2.55 -3.3,3.95
  rectangle: -3.2,2.55 -2.8,3.95
  rectangle: -2.7,2.55 -2.3,3.95
  rectangle: -2.2,2.55 -1.8,3.95
  rectangle: -1.7,2.55 -1.3,3.95
  rectangle: -1.2,2.55 -0.8,3.95
  rectangle: -0.7,2.55 -0.3,3.95
  rectangle: -0.2,2.55 0.2,3.95
  rectangle: 0.3,2.55 0.7,3.95
  rectangle: 0.8,2.55 1.2,3.95
  rectangle: 1.3,2.55 1.7,3.95
  rectangle: 1.8,2.55 2.2,3.95
  rectangle: 2.3,2.55 2.7,3.95
  rectangle: 2.8,2.55 3.2,3.95
  rectangle: 3.3,2.55 3.7,3.95
  rectangle: 3.8,2.55 4.2,3.95
  rectangle: 4.3,2.55 4.7,3.95
  rectangle: 4.8,2.55 5.2,3.95
  rectangle: 5.3,2.55 5.7,3.95
  rectangle: 5.8,2.55 6.2,3.95
  rectangle: 6.3,2.55 6.7,3.95
  rectangle: 6.8,2.55 7.2,3.95
  rectangle: 7.3,2.55 7.7,3.95
  rectangle: 7.8,2.55 8.2,3.95
  rectangle: 8.3,2.55 8.7,3.95
  rectangle: 8.8,2.55 9.2,3.95
  region: 11.85,1.175 9.95,1.175 9.95,-1.175 11.85,-1.175
  region: -13.95,1.175 -15.85,1.175 -15.85,-1.175 -13.95,-1.175
Mechanical 16:
  rectangle: -13.1,2.55 -12.9,3.4
  rectangle: -12.6,2.55 -12.4,3.4
  rectangle: -12.1,2.55 -11.9,3.4
  rectangle: -11.6,2.55 -11.4,3.4
  rectangle: -11.1,2.55 -10.9,3.4
  rectangle: -10.6,2.55 -10.4,3.4
  rectangle: -10.1,2.55 -9.9,3.4
  rectangle: -9.6,2.55 -9.4,3.4
  rectangle: -9.1,2.55 -8.9,3.4
  rectangle: -8.6,2.55 -8.4,3.4
  rectangle: -8.1,2.55 -7.9,3.4
  rectangle: -7.6,2.55 -7.4,3.4
  rectangle: -7.1,2.55 -6.9,3.4
  rectangle: -6.6,2.55 -6.4,3.4
  rectangle: -6.1,2.55 -5.9,3.4
  rectangle: -5.6,2.55 -5.4,3.4
  rectangle: -5.1,2.55 -4.9,3.4
  rectangle: -4.6,2.55 -4.4,3.4
  rectangle: -4.1,2.55 -3.9,3.4
  rectangle: -3.6,2.55 -3.4,3.4
  rectangle: -3.1,2.55 -2.9,3.4
  rectangle: -2.6,2.55 -2.4,3.4
  rectangle: -2.1,2.55 -1.9,3.4
  rectangle: -1.6,2.55 -1.4,3.4
  rectangle: -1.1,2.55 -0.9,3.4
  rectangle: -0.6,2.55 -0.4,3.4
  rectangle: -0.1,2.55 0.1,3.4
  rectangle: 0.4,2.55 0.6,3.4
  rectangle: 0.9,2.55 1.1,3.4
  rectangle: 1.4,2.55 1.6,3.4
  rectangle: 1.9,2.55 2.1,3.4
  rectangle: 2.4,2.55 2.6,3.4
  rectangle: 2.9,2.55 3.1,3.4
  rectangle: 3.4,2.55 3.6,3.4
  rectangle: 3.9,2.55 4.1,3.4
  rectangle: 4.4,2.55 4.6,3.4
  rectangle: 4.9,2.55 5.1,3.4
  rectangle: 5.4,2.55 5.6,3.4
  rectangle: 5.9,2.55 6.1,3.4
  rectangle: 6.4,2.55 6.6,3.4
  rectangle: 6.9,2.55 7.1,3.4
  rectangle: 7.4,2.55 7.6,3.4
  rectangle: 7.9,2.55 8.1,3.4
  rectangle: 8.4,2.55 8.6,3.4
  rectangle: 8.9,2.55 9.1,3.4
  lines w0.203: -14.7,-1.9 -14.7,-0.5 -15.2,-0.5 -15.2,0.5 -14.7,0.5 -14.7,2.5 10.7,2.5 10.7,0.5 11.2,0.5 11.2,-0.5 10.7,-0.5 10.7,-1.9

## FH12-50S-0.5SH [mm]
pads (50):
  rect 0.3x1.3 smd: 1(-12.25,3.25) 2(-11.75,3.25) 3(-11.25,3.25) 4(-10.75,3.25) 5(-10.25,3.25) 6(-9.75,3.25) 7(-9.25,3.25) 8(-8.75,3.25) 9(-8.25,3.25) 10(-7.75,3.25) 11(-7.25,3.25) 12(-6.75,3.25) 13(-6.25,3.25) 14(-5.75,3.25) 15(-5.25,3.25) 16(-4.75,3.25) 17(-4.25,3.25) 18(-3.75,3.25) 19(-3.25,3.25) 20(-2.75,3.25) 21(-2.25,3.25) 22(-1.75,3.25) 23(-1.25,3.25) 24(-0.75,3.25) 25(-0.25,3.25) 26(0.25,3.25) 27(0.75,3.25) 28(1.25,3.25) 29(1.75,3.25) 30(2.25,3.25) 31(2.75,3.25) 32(3.25,3.25) 33(3.75,3.25) 34(4.25,3.25) 35(4.75,3.25) 36(5.25,3.25) 37(5.75,3.25) 38(6.25,3.25) 39(6.75,3.25) 40(7.25,3.25) 41(7.75,3.25) 42(8.25,3.25) 43(8.75,3.25) 44(9.25,3.25) 45(9.75,3.25) 46(10.25,3.25) 47(10.75,3.25) 48(11.25,3.25) 49(11.75,3.25) 50(12.25,3.25)
Top Layer:
  region: 15.05,1.1 13.25,1.1 13.25,-1.1 15.05,-1.1
  region: -13.25,1.1 -15.05,1.1 -15.05,-1.1 -13.25,-1.1
Top Overlay:
  region: 0,0 0.254,0 0.254,0.254 0,0.254
  lines w0.203: -13.95,-1.5 -13.95,-1.9 -13.65,-1.9 ; -13.95,1.5 -13.95,2.5 -12.75,2.5 ; 12.75,2.5 13.95,2.5 13.95,1.5 ; 13.95,-1.5 13.95,-1.9 13.65,-1.9 ; -13.65,-1.9 -13.65,-2.2 -13.95,-2.2 -13.95,-2.9 13.95,-2.9 13.95,-2.2 13.65,-2.2 13.65,-1.9 ; -13.65,-1.9 13.65,-1.9
Top Paste:
  rectangle: -12.375,2.625 -12.125,3.875
  rectangle: -11.875,2.625 -11.625,3.875
  rectangle: -11.375,2.625 -11.125,3.875
  rectangle: -10.875,2.625 -10.625,3.875
  rectangle: -10.375,2.625 -10.125,3.875
  rectangle: -9.875,2.625 -9.625,3.875
  rectangle: -9.375,2.625 -9.125,3.875
  rectangle: -8.875,2.625 -8.625,3.875
  rectangle: -8.375,2.625 -8.125,3.875
  rectangle: -7.875,2.625 -7.625,3.875
  rectangle: -7.375,2.625 -7.125,3.875
  rectangle: -6.875,2.625 -6.625,3.875
  rectangle: -6.375,2.625 -6.125,3.875
  rectangle: -5.875,2.625 -5.625,3.875
  rectangle: -5.375,2.625 -5.125,3.875
  rectangle: -4.875,2.625 -4.625,3.875
  rectangle: -4.375,2.625 -4.125,3.875
  rectangle: -3.875,2.625 -3.625,3.875
  rectangle: -3.375,2.625 -3.125,3.875
  rectangle: -2.875,2.625 -2.625,3.875
  rectangle: -2.375,2.625 -2.125,3.875
  rectangle: -1.875,2.625 -1.625,3.875
  rectangle: -1.375,2.625 -1.125,3.875
  rectangle: -0.875,2.625 -0.625,3.875
  rectangle: -0.375,2.625 -0.125,3.875
  rectangle: 0.125,2.625 0.375,3.875
  rectangle: 0.625,2.625 0.875,3.875
  rectangle: 1.125,2.625 1.375,3.875
  rectangle: 1.625,2.625 1.875,3.875
  rectangle: 2.125,2.625 2.375,3.875
  rectangle: 2.625,2.625 2.875,3.875
  rectangle: 3.125,2.625 3.375,3.875
  rectangle: 3.625,2.625 3.875,3.875
  rectangle: 4.125,2.625 4.375,3.875
  rectangle: 4.625,2.625 4.875,3.875
  rectangle: 5.125,2.625 5.375,3.875
  rectangle: 5.625,2.625 5.875,3.875
  rectangle: 6.125,2.625 6.375,3.875
  rectangle: 6.625,2.625 6.875,3.875
  rectangle: 7.125,2.625 7.375,3.875
  rectangle: 7.625,2.625 7.875,3.875
  rectangle: 8.125,2.625 8.375,3.875
  rectangle: 8.625,2.625 8.875,3.875
  rectangle: 9.125,2.625 9.375,3.875
  rectangle: 9.625,2.625 9.875,3.875
  rectangle: 10.125,2.625 10.375,3.875
  rectangle: 10.625,2.625 10.875,3.875
  rectangle: 11.125,2.625 11.375,3.875
  rectangle: 11.625,2.625 11.875,3.875
  rectangle: 12.125,2.625 12.375,3.875
  region: 14.975,1.025 13.325,1.025 13.325,-1.025 14.975,-1.025
  region: -13.325,1.025 -14.975,1.025 -14.975,-1.025 -13.325,-1.025
Top Solder:
  rectangle: -12.45,2.55 -12.05,3.95
  rectangle: -11.95,2.55 -11.55,3.95
  rectangle: -11.45,2.55 -11.05,3.95
  rectangle: -10.95,2.55 -10.55,3.95
  rectangle: -10.45,2.55 -10.05,3.95
  rectangle: -9.95,2.55 -9.55,3.95
  rectangle: -9.45,2.55 -9.05,3.95
  rectangle: -8.95,2.55 -8.55,3.95
  rectangle: -8.45,2.55 -8.05,3.95
  rectangle: -7.95,2.55 -7.55,3.95
  rectangle: -7.45,2.55 -7.05,3.95
  rectangle: -6.95,2.55 -6.55,3.95
  rectangle: -6.45,2.55 -6.05,3.95
  rectangle: -5.95,2.55 -5.55,3.95
  rectangle: -5.45,2.55 -5.05,3.95
  rectangle: -4.95,2.55 -4.55,3.95
  rectangle: -4.45,2.55 -4.05,3.95
  rectangle: -3.95,2.55 -3.55,3.95
  rectangle: -3.45,2.55 -3.05,3.95
  rectangle: -2.95,2.55 -2.55,3.95
  rectangle: -2.45,2.55 -2.05,3.95
  rectangle: -1.95,2.55 -1.55,3.95
  rectangle: -1.45,2.55 -1.05,3.95
  rectangle: -0.95,2.55 -0.55,3.95
  rectangle: -0.45,2.55 -0.05,3.95
  rectangle: 0.05,2.55 0.45,3.95
  rectangle: 0.55,2.55 0.95,3.95
  rectangle: 1.05,2.55 1.45,3.95
  rectangle: 1.55,2.55 1.95,3.95
  rectangle: 2.05,2.55 2.45,3.95
  rectangle: 2.55,2.55 2.95,3.95
  rectangle: 3.05,2.55 3.45,3.95
  rectangle: 3.55,2.55 3.95,3.95
  rectangle: 4.05,2.55 4.45,3.95
  rectangle: 4.55,2.55 4.95,3.95
  rectangle: 5.05,2.55 5.45,3.95
  rectangle: 5.55,2.55 5.95,3.95
  rectangle: 6.05,2.55 6.45,3.95
  rectangle: 6.55,2.55 6.95,3.95
  rectangle: 7.05,2.55 7.45,3.95
  rectangle: 7.55,2.55 7.95,3.95
  rectangle: 8.05,2.55 8.45,3.95
  rectangle: 8.55,2.55 8.95,3.95
  rectangle: 9.05,2.55 9.45,3.95
  rectangle: 9.55,2.55 9.95,3.95
  rectangle: 10.05,2.55 10.45,3.95
  rectangle: 10.55,2.55 10.95,3.95
  rectangle: 11.05,2.55 11.45,3.95
  rectangle: 11.55,2.55 11.95,3.95
  rectangle: 12.05,2.55 12.45,3.95
  region: 15.1,1.175 13.2,1.175 13.2,-1.175 15.1,-1.175
  region: -13.2,1.175 -15.1,1.175 -15.1,-1.175 -13.2,-1.175
Mechanical 16:
  rectangle: -12.35,2.55 -12.15,3.4
  rectangle: -11.85,2.55 -11.65,3.4
  rectangle: -11.35,2.55 -11.15,3.4
  rectangle: -10.85,2.55 -10.65,3.4
  rectangle: -10.35,2.55 -10.15,3.4
  rectangle: -9.85,2.55 -9.65,3.4
  rectangle: -9.35,2.55 -9.15,3.4
  rectangle: -8.85,2.55 -8.65,3.4
  rectangle: -8.35,2.55 -8.15,3.4
  rectangle: -7.85,2.55 -7.65,3.4
  rectangle: -7.35,2.55 -7.15,3.4
  rectangle: -6.85,2.55 -6.65,3.4
  rectangle: -6.35,2.55 -6.15,3.4
  rectangle: -5.85,2.55 -5.65,3.4
  rectangle: -5.35,2.55 -5.15,3.4
  rectangle: -4.85,2.55 -4.65,3.4
  rectangle: -4.35,2.55 -4.15,3.4
  rectangle: -3.85,2.55 -3.65,3.4
  rectangle: -3.35,2.55 -3.15,3.4
  rectangle: -2.85,2.55 -2.65,3.4
  rectangle: -2.35,2.55 -2.15,3.4
  rectangle: -1.85,2.55 -1.65,3.4
  rectangle: -1.35,2.55 -1.15,3.4
  rectangle: -0.85,2.55 -0.65,3.4
  rectangle: -0.35,2.55 -0.15,3.4
  rectangle: 0.15,2.55 0.35,3.4
  rectangle: 0.65,2.55 0.85,3.4
  rectangle: 1.15,2.55 1.35,3.4
  rectangle: 1.65,2.55 1.85,3.4
  rectangle: 2.15,2.55 2.35,3.4
  rectangle: 2.65,2.55 2.85,3.4
  rectangle: 3.15,2.55 3.35,3.4
  rectangle: 3.65,2.55 3.85,3.4
  rectangle: 4.15,2.55 4.35,3.4
  rectangle: 4.65,2.55 4.85,3.4
  rectangle: 5.15,2.55 5.35,3.4
  rectangle: 5.65,2.55 5.85,3.4
  rectangle: 6.15,2.55 6.35,3.4
  rectangle: 6.65,2.55 6.85,3.4
  rectangle: 7.15,2.55 7.35,3.4
  rectangle: 7.65,2.55 7.85,3.4
  rectangle: 8.15,2.55 8.35,3.4
  rectangle: 8.65,2.55 8.85,3.4
  rectangle: 9.15,2.55 9.35,3.4
  rectangle: 9.65,2.55 9.85,3.4
  rectangle: 10.15,2.55 10.35,3.4
  rectangle: 10.65,2.55 10.85,3.4
  rectangle: 11.15,2.55 11.35,3.4
  rectangle: 11.65,2.55 11.85,3.4
  rectangle: 12.15,2.55 12.35,3.4
  lines w0.203: -13.95,-1.9 -13.95,-0.5 -14.45,-0.5 -14.45,0.5 -13.95,0.5 -13.95,2.5 13.95,2.5 13.95,0.5 14.45,0.5 14.45,-0.5 13.95,-0.5 13.95,-1.9

## FH12-53S-0.5SH [mm]
pads (53):
  rect 0.3x1.3 smd: 1(-13,3.25) 2(-12.5,3.25) 3(-12,3.25) 4(-11.5,3.25) 5(-11,3.25) 6(-10.5,3.25) 7(-10,3.25) 8(-9.5,3.25) 9(-9,3.25) 10(-8.5,3.25) 11(-8,3.25) 12(-7.5,3.25) 13(-7,3.25) 14(-6.5,3.25) 15(-6,3.25) 16(-5.5,3.25) 17(-5,3.25) 18(-4.5,3.25) 19(-4,3.25) 20(-3.5,3.25) 21(-3,3.25) 22(-2.5,3.25) 23(-2,3.25) 24(-1.5,3.25) 25(-1,3.25) 26(-0.5,3.25) 27(0,3.25) 28(0.5,3.25) 29(1,3.25) 30(1.5,3.25) 31(2,3.25) 32(2.5,3.25) 33(3,3.25) 34(3.5,3.25) 35(4,3.25) 36(4.5,3.25) 37(5,3.25) 38(5.5,3.25) 39(6,3.25) 40(6.5,3.25) 41(7,3.25) 42(7.5,3.25) 43(8,3.25) 44(8.5,3.25) 45(9,3.25) 46(9.5,3.25) 47(10,3.25) 48(10.5,3.25) 49(11,3.25) 50(11.5,3.25) 51(12,3.25) 52(12.5,3.25) 53(13,3.25)
Top Layer:
  region: 15.8,1.1 14,1.1 14,-1.1 15.8,-1.1
  region: -14,1.1 -15.8,1.1 -15.8,-1.1 -14,-1.1
Top Overlay:
  region: 0,0 0.254,0 0.254,0.254 0,0.254
  lines w0.203: -14.7,-1.5 -14.7,-1.9 -14.4,-1.9 ; -14.7,1.5 -14.7,2.5 -13.5,2.5 ; 13.5,2.5 14.7,2.5 14.7,1.5 ; 14.7,-1.5 14.7,-1.9 14.4,-1.9 ; -14.4,-1.9 -14.4,-2.2 -14.7,-2.2 -14.7,-2.9 14.7,-2.9 14.7,-2.2 14.4,-2.2 14.4,-1.9 ; -14.4,-1.9 14.4,-1.9
Top Paste:
  rectangle: -13.125,2.625 -12.875,3.875
  rectangle: -12.625,2.625 -12.375,3.875
  rectangle: -12.125,2.625 -11.875,3.875
  rectangle: -11.625,2.625 -11.375,3.875
  rectangle: -11.125,2.625 -10.875,3.875
  rectangle: -10.625,2.625 -10.375,3.875
  rectangle: -10.125,2.625 -9.875,3.875
  rectangle: -9.625,2.625 -9.375,3.875
  rectangle: -9.125,2.625 -8.875,3.875
  rectangle: -8.625,2.625 -8.375,3.875
  rectangle: -8.125,2.625 -7.875,3.875
  rectangle: -7.625,2.625 -7.375,3.875
  rectangle: -7.125,2.625 -6.875,3.875
  rectangle: -6.625,2.625 -6.375,3.875
  rectangle: -6.125,2.625 -5.875,3.875
  rectangle: -5.625,2.625 -5.375,3.875
  rectangle: -5.125,2.625 -4.875,3.875
  rectangle: -4.625,2.625 -4.375,3.875
  rectangle: -4.125,2.625 -3.875,3.875
  rectangle: -3.625,2.625 -3.375,3.875
  rectangle: -3.125,2.625 -2.875,3.875
  rectangle: -2.625,2.625 -2.375,3.875
  rectangle: -2.125,2.625 -1.875,3.875
  rectangle: -1.625,2.625 -1.375,3.875
  rectangle: -1.125,2.625 -0.875,3.875
  rectangle: -0.625,2.625 -0.375,3.875
  rectangle: -0.125,2.625 0.125,3.875
  rectangle: 0.375,2.625 0.625,3.875
  rectangle: 0.875,2.625 1.125,3.875
  rectangle: 1.375,2.625 1.625,3.875
  rectangle: 1.875,2.625 2.125,3.875
  rectangle: 2.375,2.625 2.625,3.875
  rectangle: 2.875,2.625 3.125,3.875
  rectangle: 3.375,2.625 3.625,3.875
  rectangle: 3.875,2.625 4.125,3.875
  rectangle: 4.375,2.625 4.625,3.875
  rectangle: 4.875,2.625 5.125,3.875
  rectangle: 5.375,2.625 5.625,3.875
  rectangle: 5.875,2.625 6.125,3.875
  rectangle: 6.375,2.625 6.625,3.875
  rectangle: 6.875,2.625 7.125,3.875
  rectangle: 7.375,2.625 7.625,3.875
  rectangle: 7.875,2.625 8.125,3.875
  rectangle: 8.375,2.625 8.625,3.875
  rectangle: 8.875,2.625 9.125,3.875
  rectangle: 9.375,2.625 9.625,3.875
  rectangle: 9.875,2.625 10.125,3.875
  rectangle: 10.375,2.625 10.625,3.875
  rectangle: 10.875,2.625 11.125,3.875
  rectangle: 11.375,2.625 11.625,3.875
  rectangle: 11.875,2.625 12.125,3.875
  rectangle: 12.375,2.625 12.625,3.875
  rectangle: 12.875,2.625 13.125,3.875
  region: 15.725,1.025 14.075,1.025 14.075,-1.025 15.725,-1.025
  region: -14.075,1.025 -15.725,1.025 -15.725,-1.025 -14.075,-1.025
Top Solder:
  rectangle: -13.2,2.55 -12.8,3.95
  rectangle: -12.7,2.55 -12.3,3.95
  rectangle: -12.2,2.55 -11.8,3.95
  rectangle: -11.7,2.55 -11.3,3.95
  rectangle: -11.2,2.55 -10.8,3.95
  rectangle: -10.7,2.55 -10.3,3.95
  rectangle: -10.2,2.55 -9.8,3.95
  rectangle: -9.7,2.55 -9.3,3.95
  rectangle: -9.2,2.55 -8.8,3.95
  rectangle: -8.7,2.55 -8.3,3.95
  rectangle: -8.2,2.55 -7.8,3.95
  rectangle: -7.7,2.55 -7.3,3.95
  rectangle: -7.2,2.55 -6.8,3.95
  rectangle: -6.7,2.55 -6.3,3.95
  rectangle: -6.2,2.55 -5.8,3.95
  rectangle: -5.7,2.55 -5.3,3.95
  rectangle: -5.2,2.55 -4.8,3.95
  rectangle: -4.7,2.55 -4.3,3.95
  rectangle: -4.2,2.55 -3.8,3.95
  rectangle: -3.7,2.55 -3.3,3.95
  rectangle: -3.2,2.55 -2.8,3.95
  rectangle: -2.7,2.55 -2.3,3.95
  rectangle: -2.2,2.55 -1.8,3.95
  rectangle: -1.7,2.55 -1.3,3.95
  rectangle: -1.2,2.55 -0.8,3.95
  rectangle: -0.7,2.55 -0.3,3.95
  rectangle: -0.2,2.55 0.2,3.95
  rectangle: 0.3,2.55 0.7,3.95
  rectangle: 0.8,2.55 1.2,3.95
  rectangle: 1.3,2.55 1.7,3.95
  rectangle: 1.8,2.55 2.2,3.95
  rectangle: 2.3,2.55 2.7,3.95
  rectangle: 2.8,2.55 3.2,3.95
  rectangle: 3.3,2.55 3.7,3.95
  rectangle: 3.8,2.55 4.2,3.95
  rectangle: 4.3,2.55 4.7,3.95
  rectangle: 4.8,2.55 5.2,3.95
  rectangle: 5.3,2.55 5.7,3.95
  rectangle: 5.8,2.55 6.2,3.95
  rectangle: 6.3,2.55 6.7,3.95
  rectangle: 6.8,2.55 7.2,3.95
  rectangle: 7.3,2.55 7.7,3.95
  rectangle: 7.8,2.55 8.2,3.95
  rectangle: 8.3,2.55 8.7,3.95
  rectangle: 8.8,2.55 9.2,3.95
  rectangle: 9.3,2.55 9.7,3.95
  rectangle: 9.8,2.55 10.2,3.95
  rectangle: 10.3,2.55 10.7,3.95
  rectangle: 10.8,2.55 11.2,3.95
  rectangle: 11.3,2.55 11.7,3.95
  rectangle: 11.8,2.55 12.2,3.95
  rectangle: 12.3,2.55 12.7,3.95
  rectangle: 12.8,2.55 13.2,3.95
  region: 15.85,1.175 13.95,1.175 13.95,-1.175 15.85,-1.175
  region: -13.95,1.175 -15.85,1.175 -15.85,-1.175 -13.95,-1.175
Mechanical 16:
  rectangle: -13.1,2.55 -12.9,3.4
  rectangle: -12.6,2.55 -12.4,3.4
  rectangle: -12.1,2.55 -11.9,3.4
  rectangle: -11.6,2.55 -11.4,3.4
  rectangle: -11.1,2.55 -10.9,3.4
  rectangle: -10.6,2.55 -10.4,3.4
  rectangle: -10.1,2.55 -9.9,3.4
  rectangle: -9.6,2.55 -9.4,3.4
  rectangle: -9.1,2.55 -8.9,3.4
  rectangle: -8.6,2.55 -8.4,3.4
  rectangle: -8.1,2.55 -7.9,3.4
  rectangle: -7.6,2.55 -7.4,3.4
  rectangle: -7.1,2.55 -6.9,3.4
  rectangle: -6.6,2.55 -6.4,3.4
  rectangle: -6.1,2.55 -5.9,3.4
  rectangle: -5.6,2.55 -5.4,3.4
  rectangle: -5.1,2.55 -4.9,3.4
  rectangle: -4.6,2.55 -4.4,3.4
  rectangle: -4.1,2.55 -3.9,3.4
  rectangle: -3.6,2.55 -3.4,3.4
  rectangle: -3.1,2.55 -2.9,3.4
  rectangle: -2.6,2.55 -2.4,3.4
  rectangle: -2.1,2.55 -1.9,3.4
  rectangle: -1.6,2.55 -1.4,3.4
  rectangle: -1.1,2.55 -0.9,3.4
  rectangle: -0.6,2.55 -0.4,3.4
  rectangle: -0.1,2.55 0.1,3.4
  rectangle: 0.4,2.55 0.6,3.4
  rectangle: 0.9,2.55 1.1,3.4
  rectangle: 1.4,2.55 1.6,3.4
  rectangle: 1.9,2.55 2.1,3.4
  rectangle: 2.4,2.55 2.6,3.4
  rectangle: 2.9,2.55 3.1,3.4
  rectangle: 3.4,2.55 3.6,3.4
  rectangle: 3.9,2.55 4.1,3.4
  rectangle: 4.4,2.55 4.6,3.4
  rectangle: 4.9,2.55 5.1,3.4
  rectangle: 5.4,2.55 5.6,3.4
  rectangle: 5.9,2.55 6.1,3.4
  rectangle: 6.4,2.55 6.6,3.4
  rectangle: 6.9,2.55 7.1,3.4
  rectangle: 7.4,2.55 7.6,3.4
  rectangle: 7.9,2.55 8.1,3.4
  rectangle: 8.4,2.55 8.6,3.4
  rectangle: 8.9,2.55 9.1,3.4
  rectangle: 9.4,2.55 9.6,3.4
  rectangle: 9.9,2.55 10.1,3.4
  rectangle: 10.4,2.55 10.6,3.4
  rectangle: 10.9,2.55 11.1,3.4
  rectangle: 11.4,2.55 11.6,3.4
  rectangle: 11.9,2.55 12.1,3.4
  rectangle: 12.4,2.55 12.6,3.4
  rectangle: 12.9,2.55 13.1,3.4
  lines w0.203: -14.7,-1.9 -14.7,-0.5 -15.2,-0.5 -15.2,0.5 -14.7,0.5 -14.7,2.5 14.7,2.5 14.7,0.5 15.2,0.5 15.2,-0.5 14.7,-0.5 14.7,-1.9